# EAGLE library part LTC6990CS6TRPBF (library LTC6990CS6TRPBF (1))
Check availability <https://pricing.snapeda.com/parts/LTC6990CS6%23TRPBF/Analog%20Devices/view-part?ref=eda>
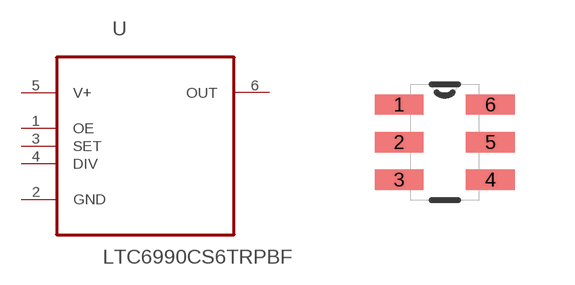
[diagram p0: symbol with the pads of SOT95P280X100-6N; footprint SOT95P280X100-6N]

Designator prefix U

## LTC6990CS6TRPBF (Availability: In Stock; Check_prices: https://www.snapeda.com/parts/LTC6990CS6%23TRPBF/Analog+Devices/view-part/?ref=eda; Description: TimerBlox: Voltage Controlled Silicon Oscillator; MF: Analog Devices; MP: LTC6990CS6#TRPBF; Package: SOT-6-6 Analog Devices; Price: None; SnapEDA_Link: https://www.snapeda.com/parts/LTC6990CS6%23TRPBF/Analog+Devices/view-part/?ref=snap)  [SOT95P280X100-6N]
1  OE  in
2  GND  pas
3  SET  in
4  DIV  in
5  V+  pwr
6  OUT  out

## Footprint SOT95P280X100-6N (pad centres in mm)
smd 1.219 x 0.508: 1 -1.143,0.94; 2 -1.143,0; 3 -1.143,-0.94; 4 1.143,-0.94; 5 1.143,0; 6 1.143,0.94